# EAGLE library part MEGADRIVE-CART-CONNECTOR-ORDERED (library sms_adapter)
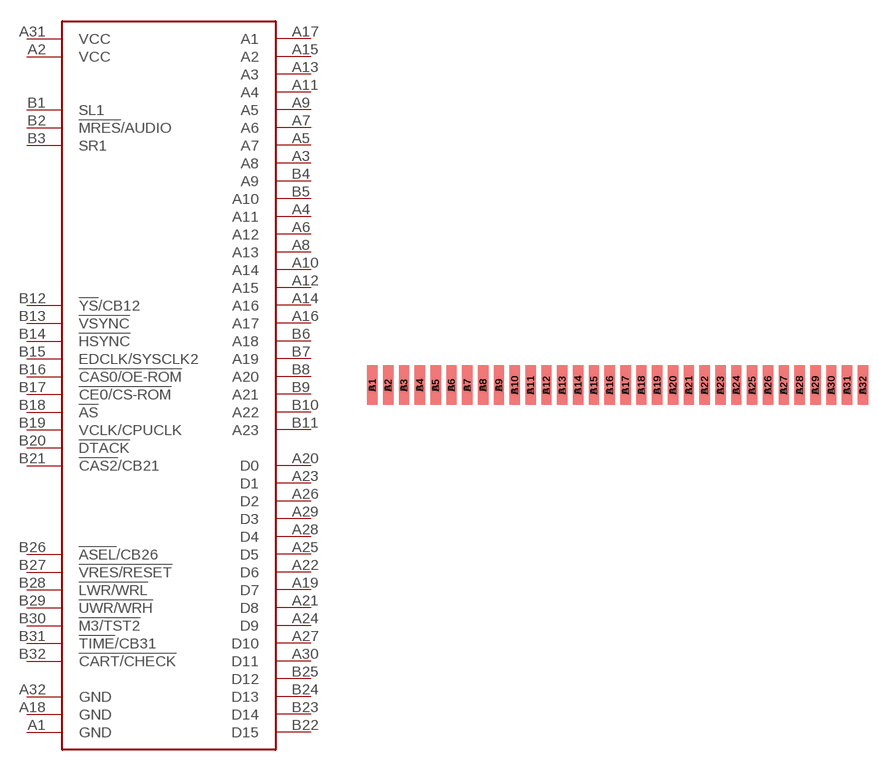
[diagram p1: symbol with the pads of MEGADRIVE-CART-CONNECTOR; footprint MEGADRIVE-CART-CONNECTOR]

Designator prefix -

## MEGADRIVE-CART-CONNECTOR-ORDERED  [MEGADRIVE-CART-CONNECTOR]
A1  GND
A2  VCC
A3  A8
A4  A11
A5  A7
A6  A12
A7  A6
A8  A13
A9  A5
A10  A14
A11  A4
A12  A15
A13  A3
A14  A16
A15  A2
A16  A17
A17  A1
A18  GND
A19  D7
A20  D0
A21  D8
A22  D6
A23  D1
A24  D9
A25  D5
A26  D2
A27  D10
A28  D4
A29  D3
A30  D11
A31  VCC
A32  GND
B1  SL1
B2  !MRES!/AUDIO
B3  SR1
B4  A9
B5  A10
B6  A18
B7  A19
B8  A20
B9  A21
B10  A22
B11  A23
B12  !YS!/CB12
B13  !VSYNC
B14  !HSYNC
B15  EDCLK/SYSCLK2
B16  !CAS0/OE-ROM
B17  !CE0/CS-ROM
B18  !AS
B19  VCLK/CPUCLK
B20  !DTACK
B21  !CAS2!/CB21
B22  D15
B23  D14
B24  D13
B25  D12
B26  !ASEL!/CB26
B27  !VRES/RESET
B28  !LWR/WRL
B29  !UWR/WRH
B30  !M3/TST2
B31  !TIME!/CB31
B32  !CART/CHECK

## Footprint MEGADRIVE-CART-CONNECTOR (pad centres in mm)
smd 1.676 x 6.35 bottom: A1 0.838,3.175; A2 3.378,3.175; A3 5.918,3.175; A4 8.458,3.175; A5 10.998,3.175; A6 13.538,3.175; A7 16.078,3.175; A8 18.618,3.175; A9 21.158,3.175; A10 23.698,3.175; A11 26.238,3.175; A12 28.778,3.175; A13 31.318,3.175; A14 33.858,3.175; A15 36.398,3.175; A16 38.938,3.175; A17 41.478,3.175; A18 44.018,3.175; A19 46.558,3.175; A20 49.098,3.175; A21 51.638,3.175; A22 54.178,3.175; A23 56.718,3.175; A24 59.258,3.175; A25 61.798,3.175; A26 64.338,3.175; A27 66.878,3.175; A28 69.418,3.175; A29 71.958,3.175; A30 74.498,3.175; A31 77.038,3.175; A32 79.578,3.175
smd 1.676 x 6.35: B1 0.838,3.175; B2 3.378,3.175; B3 5.918,3.175; B4 8.458,3.175; B5 10.998,3.175; B6 13.538,3.175; B7 16.078,3.175; B8 18.618,3.175; B9 21.158,3.175; B10 23.698,3.175; B11 26.238,3.175; B12 28.778,3.175; B13 31.318,3.175; B14 33.858,3.175; B15 36.398,3.175; B16 38.938,3.175; B17 41.478,3.175; B18 44.018,3.175; B19 46.558,3.175; B20 49.098,3.175; B21 51.638,3.175; B22 54.178,3.175; B23 56.718,3.175; B24 59.258,3.175; B25 61.798,3.175; B26 64.338,3.175; B27 66.878,3.175; B28 69.418,3.175; B29 71.958,3.175; B30 74.498,3.175; B31 77.038,3.175; B32 79.578,3.175